# Altium integrated library Agilent Optoelectronic LED.IntLib: 357 symbols (part 2 of 6)
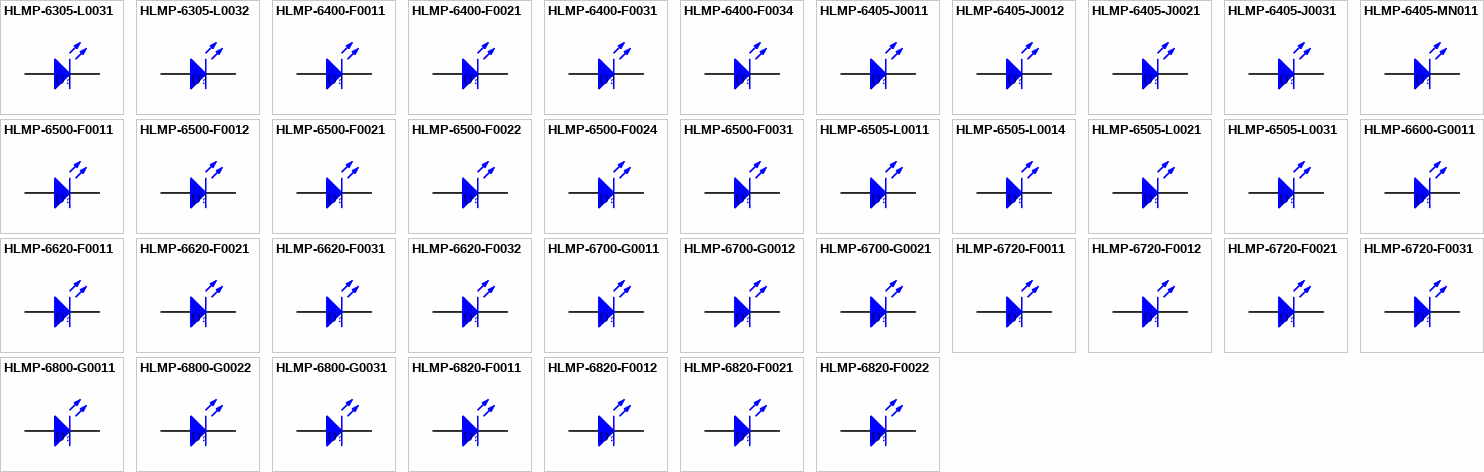
[diagram p9: symbols HLMP-6305-L0031 to HLMP-6820-F0022]

## HLMP-6700-G0011
designator D?
Subminiature Yellow LED Lamp; LuminousIntensity: 1.4mcd (Minimum).; PCB_Layout: Complies with manufacturer's recommendation.; Note: SIM model accounts for the Domed Subminiature Resistor. Extra resistance has been added to the parameter RS.; Published: 11-Dec-2002; LatestRevisionDate: 19-Mar-2004; LatestRevisionNote: Silkscreen size reduced.; DatasheetDocument: 30-Apr-2002; PackageDocument: 19-Apr-2001; PackageReference: 2.2X2.1X2.9; Publisher: Altium Limited; LED_Colour: Yellow; ComponentLink1Description: Manufacturer Link; ComponentLink1URL: http://www.agilent.com/; ComponentLink2Description: Datasheet; ComponentLink2URL: http://cp.literature.agilent.com/litweb/pdf/5988-6260EN.pdf
footprint 2.2X2.1X2.9 (SM LED; 2 Gull Wing Leads; Body 2.2 x 2.1 mm, (LxW))
simulation model Agl_HLMP6700 (Diode)
signal-integrity model LED
pins: 1 A, 2 K

## HLMP-6700-G0012
designator D?
Subminiature Yellow LED Lamp; LuminousIntensity: 1.4mcd (Minimum).; PCB_Layout: Complies with manufacturer's recommendation.; Note: SIM model accounts for the Domed Subminiature Resistor. Extra resistance has been added to the parameter RS.; Published: 11-Dec-2002; LatestRevisionDate: 19-Mar-2004; LatestRevisionNote: Silkscreen size reduced.; DatasheetDocument: 30-Apr-2002; PackageDocument: 19-Apr-2001; PackageReference: 2.2X2.1X2.9; Publisher: Altium Limited; LED_Colour: Yellow; ComponentLink1Description: Manufacturer Link; ComponentLink1URL: http://www.agilent.com/; ComponentLink2Description: Datasheet; ComponentLink2URL: http://cp.literature.agilent.com/litweb/pdf/5988-6260EN.pdf
footprint 2.2X2.1X2.9 (SM LED; 2 Gull Wing Leads; Body 2.2 x 2.1 mm, (LxW))
simulation model Agl_HLMP6700 (Diode)
signal-integrity model LED
pins: 1 A, 2 K

## HLMP-6700-G0021
designator D?
Subminiature Yellow LED Lamp; LuminousIntensity: 1.4mcd (Minimum).; PCB_Layout: Complies with manufacturer's recommendation.; DrillSize: Nominal, Rounded to nearest 0.05mm; Note: SIM model accounts for the Domed Subminiature Resistor. Extra resistance has been added to the parameter RS.; Published: 11-Dec-2002; DatasheetDocument: 30-Apr-2002; PackageDocument: 19-Apr-2001; PackageReference: 2.2X2.1X2.9Y; Publisher: Altium Limited; LED_Colour: Yellow; ComponentLink1Description: Manufacturer Link; ComponentLink1URL: http://www.agilent.com/; ComponentLink2Description: Datasheet; ComponentLink2URL: http://cp.literature.agilent.com/litweb/pdf/5988-6260EN.pdf
footprint 2.2X2.1X2.9Y (SM LED; 2 Yoke Leads)
simulation model Agl_HLMP6700 (Diode)
signal-integrity model LED
pins: 1 A, 2 K

## HLMP-6720-F0011
designator D?
Subminiature Yellow LED Lamp; LuminousIntensity: 0.9mcd (Minimum).; PCB_Layout: Complies with manufacturer's recommendation.; Note: SIM model accounts for the Domed Subminiature Resistor. Extra resistance has been added to the parameter RS.; Published: 11-Dec-2002; LatestRevisionDate: 19-Mar-2004; LatestRevisionNote: Silkscreen size reduced.; DatasheetDocument: 30-Apr-2002; PackageDocument: 19-Apr-2001; PackageReference: 2.2X2.1X2.9; Publisher: Altium Limited; LED_Colour: Yellow; ComponentLink1Description: Manufacturer Link; ComponentLink1URL: http://www.agilent.com/; ComponentLink2Description: Datasheet; ComponentLink2URL: http://cp.literature.agilent.com/litweb/pdf/5988-6260EN.pdf
footprint 2.2X2.1X2.9 (SM LED; 2 Gull Wing Leads; Body 2.2 x 2.1 mm, (LxW))
simulation model Agl_HLMP6720 (Diode)
signal-integrity model LED
pins: 1 A, 2 K

## HLMP-6720-F0012
designator D?
Subminiature Yellow LED Lamp; LuminousIntensity: 0.9mcd (Minimum).; PCB_Layout: Complies with manufacturer's recommendation.; Note: SIM model accounts for the Domed Subminiature Resistor. Extra resistance has been added to the parameter RS.; Published: 11-Dec-2002; LatestRevisionDate: 19-Mar-2004; LatestRevisionNote: Silkscreen size reduced.; DatasheetDocument: 30-Apr-2002; PackageDocument: 19-Apr-2001; PackageReference: 2.2X2.1X2.9; Publisher: Altium Limited; LED_Colour: Yellow; ComponentLink1Description: Manufacturer Link; ComponentLink1URL: http://www.agilent.com/; ComponentLink2Description: Datasheet; ComponentLink2URL: http://cp.literature.agilent.com/litweb/pdf/5988-6260EN.pdf
footprint 2.2X2.1X2.9 (SM LED; 2 Gull Wing Leads; Body 2.2 x 2.1 mm, (LxW))
simulation model Agl_HLMP6720 (Diode)
signal-integrity model LED
pins: 1 A, 2 K

## HLMP-6720-F0021
designator D?
Subminiature Yellow LED Lamp; LuminousIntensity: 0.9mcd (Minimum).; PCB_Layout: Complies with manufacturer's recommendation.; DrillSize: Nominal, Rounded to nearest 0.05mm; Note: SIM model accounts for the Domed Subminiature Resistor. Extra resistance has been added to the parameter RS.; Published: 11-Dec-2002; DatasheetDocument: 30-Apr-2002; PackageDocument: 19-Apr-2001; PackageReference: 2.2X2.1X2.9Y; Publisher: Altium Limited; LED_Colour: Yellow; ComponentLink1Description: Manufacturer Link; ComponentLink1URL: http://www.agilent.com/; ComponentLink2Description: Datasheet; ComponentLink2URL: http://cp.literature.agilent.com/litweb/pdf/5988-6260EN.pdf
footprint 2.2X2.1X2.9Y (SM LED; 2 Yoke Leads)
simulation model Agl_HLMP6720 (Diode)
signal-integrity model LED
pins: 1 A, 2 K

## HLMP-6720-F0031
designator D?
Subminiature Yellow LED Lamp; LuminousIntensity: 0.9mcd (Minimum).; PCB_Layout: Complies with manufacturer's recommendation.; DrillSize: Nominal, Rounded to nearest 0.05mm; Note: SIM model accounts for the Domed Subminiature Resistor. Extra resistance has been added to the parameter RS.; Published: 11-Dec-2002; DatasheetDocument: 30-Apr-2002; PackageDocument: 19-Apr-2001; PackageReference: 2.2X2.1X2.9Z; Publisher: Altium Limited; LED_Colour: Yellow; ComponentLink1Description: Manufacturer Link; ComponentLink1URL: http://www.agilent.com/; ComponentLink2Description: Datasheet; ComponentLink2URL: http://cp.literature.agilent.com/litweb/pdf/5988-6260EN.pdf
footprint 2.2X2.1X2.9Z (SM LED; 2 Z-Bend Leads)
simulation model Agl_HLMP6720 (Diode)
signal-integrity model LED
pins: 1 A, 2 K

## HLMP-6800-G0011
designator D?
Subminiature Green LED Lamp; LuminousIntensity: 1.6mcd (Minimum).; PCB_Layout: Complies with manufacturer's recommendation.; Note: SIM model accounts for the Domed Subminiature Resistor. Extra resistance has been added to the parameter RS.; Published: 11-Dec-2002; LatestRevisionDate: 19-Mar-2004; LatestRevisionNote: Silkscreen size reduced.; DatasheetDocument: 30-Apr-2002; PackageDocument: 19-Apr-2001; PackageReference: 2.2X2.1X2.9; Publisher: Altium Limited; LED_Colour: Green; ComponentLink1Description: Manufacturer Link; ComponentLink1URL: http://www.agilent.com/; ComponentLink2Description: Datasheet; ComponentLink2URL: http://cp.literature.agilent.com/litweb/pdf/5988-6260EN.pdf
footprint 2.2X2.1X2.9 (SM LED; 2 Gull Wing Leads; Body 2.2 x 2.1 mm, (LxW))
simulation model Agl_HLMP6800 (Diode)
signal-integrity model LED
pins: 1 A, 2 K

## HLMP-6800-G0022
designator D?
Subminiature Green LED Lamp; LuminousIntensity: 1.6mcd (Minimum).; PCB_Layout: Complies with manufacturer's recommendation.; DrillSize: Nominal, Rounded to nearest 0.05mm; Note: SIM model accounts for the Domed Subminiature Resistor. Extra resistance has been added to the parameter RS.; Published: 11-Dec-2002; DatasheetDocument: 30-Apr-2002; PackageDocument: 19-Apr-2001; PackageReference: 2.2X2.1X2.9Y; Publisher: Altium Limited; LED_Colour: Green; ComponentLink1Description: Manufacturer Link; ComponentLink1URL: http://www.agilent.com/; ComponentLink2Description: Datasheet; ComponentLink2URL: http://cp.literature.agilent.com/litweb/pdf/5988-6260EN.pdf
footprint 2.2X2.1X2.9Y (SM LED; 2 Yoke Leads)
simulation model Agl_HLMP6800 (Diode)
signal-integrity model LED
pins: 1 A, 2 K

## HLMP-6800-G0031
designator D?
Subminiature Green LED Lamp; LuminousIntensity: 1.6mcd (Minimum).; PCB_Layout: Complies with manufacturer's recommendation.; DrillSize: Nominal, Rounded to nearest 0.05mm; Note: SIM model accounts for the Domed Subminiature Resistor. Extra resistance has been added to the parameter RS.; Published: 11-Dec-2002; DatasheetDocument: 30-Apr-2002; PackageDocument: 19-Apr-2001; PackageReference: 2.2X2.1X2.9Z; Publisher: Altium Limited; LED_Colour: Green; ComponentLink1Description: Manufacturer Link; ComponentLink1URL: http://www.agilent.com/; ComponentLink2Description: Datasheet; ComponentLink2URL: http://cp.literature.agilent.com/litweb/pdf/5988-6260EN.pdf
footprint 2.2X2.1X2.9Z (SM LED; 2 Z-Bend Leads)
simulation model Agl_HLMP6800 (Diode)
signal-integrity model LED
pins: 1 A, 2 K

## HLMP-6820-F0011
designator D?
Subminiature Green LED Lamp; LuminousIntensity: 1mcd (Minimum).; PCB_Layout: Complies with manufacturer's recommendation.; Note: SIM model accounts for the Domed Subminiature Resistor. Extra resistance has been added to the parameter RS.; Published: 11-Dec-2002; LatestRevisionDate: 19-Mar-2004; LatestRevisionNote: Silkscreen size reduced.; DatasheetDocument: 30-Apr-2002; PackageDocument: 19-Apr-2001; PackageReference: 2.2X2.1X2.9; Publisher: Altium Limited; LED_Colour: Green; ComponentLink1Description: Manufacturer Link; ComponentLink1URL: http://www.agilent.com/; ComponentLink2Description: Datasheet; ComponentLink2URL: http://cp.literature.agilent.com/litweb/pdf/5988-6260EN.pdf
footprint 2.2X2.1X2.9 (SM LED; 2 Gull Wing Leads; Body 2.2 x 2.1 mm, (LxW))
simulation model Agl_HLMP6820 (Diode)
signal-integrity model LED
pins: 1 A, 2 K

## HLMP-6820-F0012
designator D?
Subminiature Green LED Lamp; LuminousIntensity: 1mcd (Minimum).; PCB_Layout: Complies with manufacturer's recommendation.; Note: SIM model accounts for the Domed Subminiature Resistor. Extra resistance has been added to the parameter RS.; Published: 11-Dec-2002; LatestRevisionDate: 19-Mar-2004; LatestRevisionNote: Silkscreen size reduced.; DatasheetDocument: 30-Apr-2002; PackageDocument: 19-Apr-2001; PackageReference: 2.2X2.1X2.9; Publisher: Altium Limited; LED_Colour: Green; ComponentLink1Description: Manufacturer Link; ComponentLink1URL: http://www.agilent.com/; ComponentLink2Description: Datasheet; ComponentLink2URL: http://cp.literature.agilent.com/litweb/pdf/5988-6260EN.pdf
footprint 2.2X2.1X2.9 (SM LED; 2 Gull Wing Leads; Body 2.2 x 2.1 mm, (LxW))
simulation model Agl_HLMP6820 (Diode)
signal-integrity model LED
pins: 1 A, 2 K

## HLMP-6820-F0021
designator D?
Subminiature Green LED Lamp; LuminousIntensity: 1mcd (Minimum).; PCB_Layout: Complies with manufacturer's recommendation.; DrillSize: Nominal, Rounded to nearest 0.05mm; Note: SIM model accounts for the Domed Subminiature Resistor. Extra resistance has been added to the parameter RS.; Published: 11-Dec-2002; DatasheetDocument: 30-Apr-2002; PackageDocument: 19-Apr-2001; PackageReference: 2.2X2.1X2.9Y; Publisher: Altium Limited; LED_Colour: Green; ComponentLink1Description: Manufacturer Link; ComponentLink1URL: http://www.agilent.com/; ComponentLink2Description: Datasheet; ComponentLink2URL: http://cp.literature.agilent.com/litweb/pdf/5988-6260EN.pdf
footprint 2.2X2.1X2.9Y (SM LED; 2 Yoke Leads)
simulation model Agl_HLMP6820 (Diode)
signal-integrity model LED
pins: 1 A, 2 K

## HLMP-6820-F0022
designator D?
Subminiature Green LED Lamp; LuminousIntensity: 1mcd (Minimum).; PCB_Layout: Complies with manufacturer's recommendation.; DrillSize: Nominal, Rounded to nearest 0.05mm; Note: SIM model accounts for the Domed Subminiature Resistor. Extra resistance has been added to the parameter RS.; Published: 11-Dec-2002; DatasheetDocument: 30-Apr-2002; PackageDocument: 19-Apr-2001; PackageReference: 2.2X2.1X2.9Y; Publisher: Altium Limited; LED_Colour: Green; ComponentLink1Description: Manufacturer Link; ComponentLink1URL: http://www.agilent.com/; ComponentLink2Description: Datasheet; ComponentLink2URL: http://cp.literature.agilent.com/litweb/pdf/5988-6260EN.pdf
footprint 2.2X2.1X2.9Y (SM LED; 2 Yoke Leads)
simulation model Agl_HLMP6820 (Diode)
signal-integrity model LED
pins: 1 A, 2 K

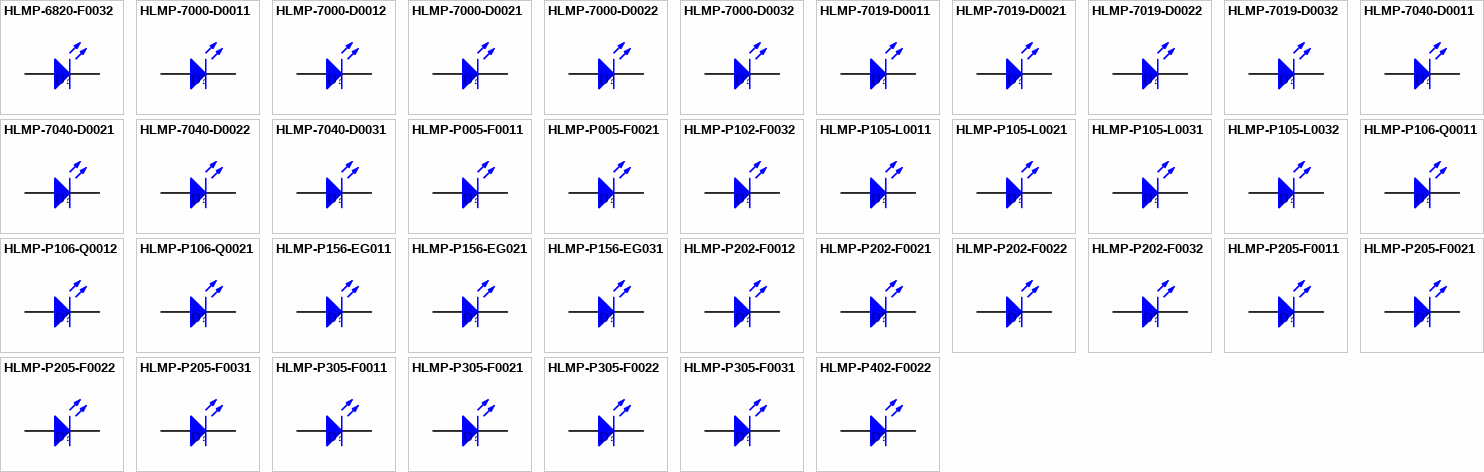
[diagram p2: symbols HLMP-6820-F0032 to HLMP-P402-F0022]

## HLMP-6820-F0032
designator D?
Subminiature Green LED Lamp; LuminousIntensity: 1mcd (Minimum).; PCB_Layout: Complies with manufacturer's recommendation.; DrillSize: Nominal, Rounded to nearest 0.05mm; Note: SIM model accounts for the Domed Subminiature Resistor. Extra resistance has been added to the parameter RS.; Published: 11-Dec-2002; DatasheetDocument: 30-Apr-2002; PackageDocument: 19-Apr-2001; PackageReference: 2.2X2.1X2.9Z; Publisher: Altium Limited; LED_Colour: Green; ComponentLink1Description: Manufacturer Link; ComponentLink1URL: http://www.agilent.com/; ComponentLink2Description: Datasheet; ComponentLink2URL: http://cp.literature.agilent.com/litweb/pdf/5988-6260EN.pdf
footprint 2.2X2.1X2.9Z (SM LED; 2 Z-Bend Leads)
simulation model Agl_HLMP6820 (Diode)
signal-integrity model LED
pins: 1 A, 2 K

## HLMP-7000-D0011
designator D?
Subminiature Red LED Lamp; LuminousIntensity: 0.4mcd (Minimum).; PCB_Layout: Complies with manufacturer's recommendation.; Published: 11-Dec-2002; LatestRevisionDate: 19-Mar-2004; LatestRevisionNote: Silkscreen size reduced.; DatasheetDocument: 30-Apr-2002; PackageDocument: 19-Apr-2001; PackageReference: 2.2X2.1X2.9; Publisher: Altium Limited; LED_Colour: Red; ComponentLink1Description: Manufacturer Link; ComponentLink1URL: http://www.agilent.com/; ComponentLink2Description: Datasheet; ComponentLink2URL: http://cp.literature.agilent.com/litweb/pdf/5988-6260EN.pdf
footprint 2.2X2.1X2.9 (SM LED; 2 Gull Wing Leads; Body 2.2 x 2.1 mm, (LxW))
simulation model Agl_HLMP7000 (Diode)
signal-integrity model LED
pins: 1 A, 2 K

## HLMP-7000-D0012
designator D?
Subminiature Red LED Lamp; LuminousIntensity: 0.4mcd (Minimum).; PCB_Layout: Complies with manufacturer's recommendation.; Published: 11-Dec-2002; LatestRevisionDate: 19-Mar-2004; LatestRevisionNote: Silkscreen size reduced.; DatasheetDocument: 30-Apr-2002; PackageDocument: 19-Apr-2001; PackageReference: 2.2X2.1X2.9; Publisher: Altium Limited; LED_Colour: Red; ComponentLink1Description: Manufacturer Link; ComponentLink1URL: http://www.agilent.com/; ComponentLink2Description: Datasheet; ComponentLink2URL: http://cp.literature.agilent.com/litweb/pdf/5988-6260EN.pdf
footprint 2.2X2.1X2.9 (SM LED; 2 Gull Wing Leads; Body 2.2 x 2.1 mm, (LxW))
simulation model Agl_HLMP7000 (Diode)
signal-integrity model LED
pins: 1 A, 2 K

## HLMP-7000-D0021
designator D?
Subminiature Red LED Lamp; LuminousIntensity: 0.4mcd (Minimum).; PCB_Layout: Complies with manufacturer's recommendation.; DrillSize: Nominal, Rounded to nearest 0.05mm; Published: 11-Dec-2002; DatasheetDocument: 30-Apr-2002; PackageDocument: 19-Apr-2001; PackageReference: 2.2X2.1X2.9Y; Publisher: Altium Limited; LED_Colour: Red; ComponentLink1Description: Manufacturer Link; ComponentLink1URL: http://www.agilent.com/; ComponentLink2Description: Datasheet; ComponentLink2URL: http://cp.literature.agilent.com/litweb/pdf/5988-6260EN.pdf
footprint 2.2X2.1X2.9Y (SM LED; 2 Yoke Leads)
simulation model Agl_HLMP7000 (Diode)
signal-integrity model LED
pins: 1 A, 2 K

## HLMP-7000-D0022
designator D?
Subminiature Red LED Lamp; LuminousIntensity: 0.4mcd (Minimum).; PCB_Layout: Complies with manufacturer's recommendation.; DrillSize: Nominal, Rounded to nearest 0.05mm; Published: 11-Dec-2002; DatasheetDocument: 30-Apr-2002; PackageDocument: 19-Apr-2001; PackageReference: 2.2X2.1X2.9Y; Publisher: Altium Limited; LED_Colour: Red; ComponentLink1Description: Manufacturer Link; ComponentLink1URL: http://www.agilent.com/; ComponentLink2Description: Datasheet; ComponentLink2URL: http://cp.literature.agilent.com/litweb/pdf/5988-6260EN.pdf
footprint 2.2X2.1X2.9Y (SM LED; 2 Yoke Leads)
simulation model Agl_HLMP7000 (Diode)
signal-integrity model LED
pins: 1 A, 2 K

## HLMP-7000-D0032
designator D?
Subminiature Red LED Lamp; LuminousIntensity: 0.4mcd (Minimum).; PCB_Layout: Complies with manufacturer's recommendation.; DrillSize: Nominal, Rounded to nearest 0.05mm; Published: 11-Dec-2002; DatasheetDocument: 30-Apr-2002; PackageDocument: 19-Apr-2001; PackageReference: 2.2X2.1X2.9Z; Publisher: Altium Limited; LED_Colour: Red; ComponentLink1Description: Manufacturer Link; ComponentLink1URL: http://www.agilent.com/; ComponentLink2Description: Datasheet; ComponentLink2URL: http://cp.literature.agilent.com/litweb/pdf/5988-6260EN.pdf
footprint 2.2X2.1X2.9Z (SM LED; 2 Z-Bend Leads)
simulation model Agl_HLMP7000 (Diode)
signal-integrity model LED
pins: 1 A, 2 K

## HLMP-7019-D0011
designator D?
Subminiature Yellow LED Lamp; LuminousIntensity: 0.4mcd (Minimum).; PCB_Layout: Complies with manufacturer's recommendation.; Published: 11-Dec-2002; LatestRevisionDate: 19-Mar-2004; LatestRevisionNote: Silkscreen size reduced.; DatasheetDocument: 30-Apr-2002; PackageDocument: 19-Apr-2001; PackageReference: 2.2X2.1X2.9; Publisher: Altium Limited; LED_Colour: Yellow; ComponentLink1Description: Manufacturer Link; ComponentLink1URL: http://www.agilent.com/; ComponentLink2Description: Datasheet; ComponentLink2URL: http://cp.literature.agilent.com/litweb/pdf/5988-6260EN.pdf
footprint 2.2X2.1X2.9 (SM LED; 2 Gull Wing Leads; Body 2.2 x 2.1 mm, (LxW))
simulation model Agl_HLMP7019 (Diode)
signal-integrity model LED
pins: 1 A, 2 K

## HLMP-7019-D0021
designator D?
Subminiature Yellow LED Lamp; LuminousIntensity: 0.4mcd (Minimum).; PCB_Layout: Complies with manufacturer's recommendation.; DrillSize: Nominal, Rounded to nearest 0.05mm; Published: 11-Dec-2002; DatasheetDocument: 30-Apr-2002; PackageDocument: 19-Apr-2001; PackageReference: 2.2X2.1X2.9Y; Publisher: Altium Limited; LED_Colour: Yellow; ComponentLink1Description: Manufacturer Link; ComponentLink1URL: http://www.agilent.com/; ComponentLink2Description: Datasheet; ComponentLink2URL: http://cp.literature.agilent.com/litweb/pdf/5988-6260EN.pdf
footprint 2.2X2.1X2.9Y (SM LED; 2 Yoke Leads)
simulation model Agl_HLMP7019 (Diode)
signal-integrity model LED
pins: 1 A, 2 K

## HLMP-7019-D0022
designator D?
Subminiature Yellow LED Lamp; LuminousIntensity: 0.4mcd (Minimum).; PCB_Layout: Complies with manufacturer's recommendation.; DrillSize: Nominal, Rounded to nearest 0.05mm; Published: 11-Dec-2002; DatasheetDocument: 30-Apr-2002; PackageDocument: 19-Apr-2001; PackageReference: 2.2X2.1X2.9Y; Publisher: Altium Limited; LED_Colour: Yellow; ComponentLink1Description: Manufacturer Link; ComponentLink1URL: http://www.agilent.com/; ComponentLink2Description: Datasheet; ComponentLink2URL: http://cp.literature.agilent.com/litweb/pdf/5988-6260EN.pdf
footprint 2.2X2.1X2.9Y (SM LED; 2 Yoke Leads)
simulation model Agl_HLMP7019 (Diode)
signal-integrity model LED
pins: 1 A, 2 K

## HLMP-7019-D0032
designator D?
Subminiature Yellow LED Lamp; LuminousIntensity: 0.4mcd (Minimum).; PCB_Layout: Complies with manufacturer's recommendation.; DrillSize: Nominal, Rounded to nearest 0.05mm; Published: 11-Dec-2002; DatasheetDocument: 30-Apr-2002; PackageDocument: 19-Apr-2001; PackageReference: 2.2X2.1X2.9Z; Publisher: Altium Limited; LED_Colour: Yellow; ComponentLink1Description: Manufacturer Link; ComponentLink1URL: http://www.agilent.com/; ComponentLink2Description: Datasheet; ComponentLink2URL: http://cp.literature.agilent.com/litweb/pdf/5988-6260EN.pdf
footprint 2.2X2.1X2.9Z (SM LED; 2 Z-Bend Leads)
simulation model Agl_HLMP7019 (Diode)
signal-integrity model LED
pins: 1 A, 2 K

## HLMP-7040-D0011
designator D?
Subminiature Green LED Lamp; LuminousIntensity: 0.4mcd (Minimum).; PCB_Layout: Complies with manufacturer's recommendation.; Published: 11-Dec-2002; LatestRevisionDate: 19-Mar-2004; LatestRevisionNote: Silkscreen size reduced.; DatasheetDocument: 30-Apr-2002; PackageDocument: 19-Apr-2001; PackageReference: 2.2X2.1X2.9; Publisher: Altium Limited; LED_Colour: Green; ComponentLink1Description: Manufacturer Link; ComponentLink1URL: http://www.agilent.com/; ComponentLink2Description: Datasheet; ComponentLink2URL: http://cp.literature.agilent.com/litweb/pdf/5988-6260EN.pdf
footprint 2.2X2.1X2.9 (SM LED; 2 Gull Wing Leads; Body 2.2 x 2.1 mm, (LxW))
simulation model Agl_HLMP7040 (Diode)
signal-integrity model LED
pins: 1 A, 2 K

## HLMP-7040-D0021
designator D?
Subminiature Green LED Lamp; LuminousIntensity: 0.4mcd (Minimum).; PCB_Layout: Complies with manufacturer's recommendation.; DrillSize: Nominal, Rounded to nearest 0.05mm; Published: 11-Dec-2002; DatasheetDocument: 30-Apr-2002; PackageDocument: 19-Apr-2001; PackageReference: 2.2X2.1X2.9Y; Publisher: Altium Limited; LED_Colour: Green; ComponentLink1Description: Manufacturer Link; ComponentLink1URL: http://www.agilent.com/; ComponentLink2Description: Datasheet; ComponentLink2URL: http://cp.literature.agilent.com/litweb/pdf/5988-6260EN.pdf
footprint 2.2X2.1X2.9Y (SM LED; 2 Yoke Leads)
simulation model Agl_HLMP7040 (Diode)
signal-integrity model LED
pins: 1 A, 2 K

## HLMP-7040-D0022
designator D?
Subminiature Green LED Lamp; LuminousIntensity: 0.4mcd (Minimum).; PCB_Layout: Complies with manufacturer's recommendation.; DrillSize: Nominal, Rounded to nearest 0.05mm; Published: 11-Dec-2002; DatasheetDocument: 30-Apr-2002; PackageDocument: 19-Apr-2001; PackageReference: 2.2X2.1X2.9Y; Publisher: Altium Limited; LED_Colour: Green; ComponentLink1Description: Manufacturer Link; ComponentLink1URL: http://www.agilent.com/; ComponentLink2Description: Datasheet; ComponentLink2URL: http://cp.literature.agilent.com/litweb/pdf/5988-6260EN.pdf
footprint 2.2X2.1X2.9Y (SM LED; 2 Yoke Leads)
simulation model Agl_HLMP7040 (Diode)
signal-integrity model LED
pins: 1 A, 2 K

## HLMP-7040-D0031
designator D?
Subminiature Green LED Lamp; LuminousIntensity: 0.4mcd (Minimum).; PCB_Layout: Complies with manufacturer's recommendation.; DrillSize: Nominal, Rounded to nearest 0.05mm; Published: 11-Dec-2002; DatasheetDocument: 30-Apr-2002; PackageDocument: 19-Apr-2001; PackageReference: 2.2X2.1X2.9Z; Publisher: Altium Limited; LED_Colour: Green; ComponentLink1Description: Manufacturer Link; ComponentLink1URL: http://www.agilent.com/; ComponentLink2Description: Datasheet; ComponentLink2URL: http://cp.literature.agilent.com/litweb/pdf/5988-6260EN.pdf
footprint 2.2X2.1X2.9Z (SM LED; 2 Z-Bend Leads)
simulation model Agl_HLMP7040 (Diode)
signal-integrity model LED
pins: 1 A, 2 K

## HLMP-P005-F0011
designator D?
Subminiature Red LED Lamp; LuminousIntensity: 1mcd (Minimum).; PCB_Layout: Complies with manufacturer's recommendation.; Published: 11-Dec-2002; LatestRevisionDate: 19-Mar-2004; LatestRevisionNote: Silkscreen size reduced.; DatasheetDocument: 30-Apr-2002; PackageDocument: 19-Apr-2001; PackageReference: 2.2X2.1X2.2; Publisher: Altium Limited; LED_Colour: Red; ComponentLink1Description: Manufacturer Link; ComponentLink1URL: http://www.agilent.com/; ComponentLink2Description: Datasheet; ComponentLink2URL: http://cp.literature.agilent.com/litweb/pdf/5988-6260EN.pdf
footprint 2.2X2.1X2.2 (SM LED; 2 Gull Wing Leads; Body 2.2 x 2.1 mm, (LxW))
simulation model Agl_HLMP6000 (Diode)
signal-integrity model LED
pins: 1 A, 2 K

## HLMP-P005-F0021
designator D?
Subminiature Red LED Lamp; LuminousIntensity: 1mcd (Minimum).; PCB_Layout: Complies with manufacturer's recommendation.; DrillSize: Nominal, Rounded to nearest 0.05mm; Published: 11-Dec-2002; DatasheetDocument: 30-Apr-2002; PackageDocument: 19-Apr-2001; PackageReference: 2.2X2.1X2.2Y; Publisher: Altium Limited; LED_Colour: Red; ComponentLink1Description: Manufacturer Link; ComponentLink1URL: http://www.agilent.com/; ComponentLink2Description: Datasheet; ComponentLink2URL: http://cp.literature.agilent.com/litweb/pdf/5988-6260EN.pdf
footprint 2.2X2.1X2.2Y (SM LED; 2 Yoke Leads)
simulation model Agl_HLMP6000 (Diode)
signal-integrity model LED
pins: 1 A, 2 K

## HLMP-P102-F0032
designator D?
Subminiature High Performance TS AlGaAs Red LED Lamp; LuminousIntensity: 1mcd (Minimum).; PCB_Layout: Complies with manufacturer's recommendation.; DrillSize: Nominal, Rounded to nearest 0.05mm; Published: 11-Dec-2002; DatasheetDocument: 30-Apr-2002; PackageDocument: 19-Apr-2001; PackageReference: 2.2X2.1X2.2Z; Publisher: Altium Limited; LED_Colour: Red; ComponentLink1Description: Manufacturer Link; ComponentLink1URL: http://www.agilent.com/; ComponentLink2Description: Datasheet; ComponentLink2URL: http://cp.literature.agilent.com/litweb/pdf/5988-6260EN.pdf
footprint 2.2X2.1X2.2Z (SM LED; 2 Z-Bend Leads)
simulation model Agl_HLMPQ100 (Diode)
signal-integrity model LED
pins: 1 A, 2 K

## HLMP-P105-L0011
designator D?
Subminiature Red LED Lamp; LuminousIntensity: 10mcd (Minimum).; PCB_Layout: Complies with manufacturer's recommendation.; Published: 11-Dec-2002; LatestRevisionDate: 19-Mar-2004; LatestRevisionNote: Silkscreen size reduced.; DatasheetDocument: 30-Apr-2002; PackageDocument: 19-Apr-2001; PackageReference: 2.2X2.1X2.2; Publisher: Altium Limited; LED_Colour: Red; ComponentLink1Description: Manufacturer Link; ComponentLink1URL: http://www.agilent.com/; ComponentLink2Description: Datasheet; ComponentLink2URL: http://cp.literature.agilent.com/litweb/pdf/5988-6260EN.pdf
footprint 2.2X2.1X2.2 (SM LED; 2 Gull Wing Leads; Body 2.2 x 2.1 mm, (LxW))
simulation model Agl_HLMPQ100 (Diode)
signal-integrity model LED
pins: 1 A, 2 K

## HLMP-P105-L0021
designator D?
Subminiature Red LED Lamp; LuminousIntensity: 10mcd (Minimum).; PCB_Layout: Complies with manufacturer's recommendation.; DrillSize: Nominal, Rounded to nearest 0.05mm; Published: 11-Dec-2002; DatasheetDocument: 30-Apr-2002; PackageDocument: 19-Apr-2001; PackageReference: 2.2X2.1X2.2Y; Publisher: Altium Limited; LED_Colour: Red; ComponentLink1Description: Manufacturer Link; ComponentLink1URL: http://www.agilent.com/; ComponentLink2Description: Datasheet; ComponentLink2URL: http://cp.literature.agilent.com/litweb/pdf/5988-6260EN.pdf
footprint 2.2X2.1X2.2Y (SM LED; 2 Yoke Leads)
simulation model Agl_HLMPQ100 (Diode)
signal-integrity model LED
pins: 1 A, 2 K

## HLMP-P105-L0031
designator D?
Subminiature Red LED Lamp; LuminousIntensity: 10mcd (Minimum).; PCB_Layout: Complies with manufacturer's recommendation.; DrillSize: Nominal, Rounded to nearest 0.05mm; Published: 11-Dec-2002; DatasheetDocument: 30-Apr-2002; PackageDocument: 19-Apr-2001; PackageReference: 2.2X2.1X2.2Z; Publisher: Altium Limited; LED_Colour: Red; ComponentLink1Description: Manufacturer Link; ComponentLink1URL: http://www.agilent.com/; ComponentLink2Description: Datasheet; ComponentLink2URL: http://cp.literature.agilent.com/litweb/pdf/5988-6260EN.pdf
footprint 2.2X2.1X2.2Z (SM LED; 2 Z-Bend Leads)
simulation model Agl_HLMPQ100 (Diode)
signal-integrity model LED
pins: 1 A, 2 K

## HLMP-P105-L0032
designator D?
Subminiature Red LED Lamp; LuminousIntensity: 10mcd (Minimum).; PCB_Layout: Complies with manufacturer's recommendation.; DrillSize: Nominal, Rounded to nearest 0.05mm; Published: 11-Dec-2002; DatasheetDocument: 30-Apr-2002; PackageDocument: 19-Apr-2001; PackageReference: 2.2X2.1X2.2Z; Publisher: Altium Limited; LED_Colour: Red; ComponentLink1Description: Manufacturer Link; ComponentLink1URL: http://www.agilent.com/; ComponentLink2Description: Datasheet; ComponentLink2URL: http://cp.literature.agilent.com/litweb/pdf/5988-6260EN.pdf
footprint 2.2X2.1X2.2Z (SM LED; 2 Z-Bend Leads)
simulation model Agl_HLMPQ100 (Diode)
signal-integrity model LED
pins: 1 A, 2 K

## HLMP-P106-Q0011
designator D?
Subminiature High Performance TS AlGaAs Red LED Lamp; LuminousIntensity: 63mcd (Minimum).; PCB_Layout: Complies with manufacturer's recommendation.; Published: 11-Dec-2002; LatestRevisionDate: 19-Mar-2004; LatestRevisionNote: Silkscreen size reduced.; DatasheetDocument: 30-Apr-2002; PackageDocument: 19-Apr-2001; PackageReference: 2.2X2.1X2.2; Publisher: Altium Limited; LED_Colour: Red; ComponentLink1Description: Manufacturer Link; ComponentLink1URL: http://www.agilent.com/; ComponentLink2Description: Datasheet; ComponentLink2URL: http://cp.literature.agilent.com/litweb/pdf/5988-6260EN.pdf
footprint 2.2X2.1X2.2 (SM LED; 2 Gull Wing Leads; Body 2.2 x 2.1 mm, (LxW))
simulation model Agl_HLMPQ102 (Diode)
signal-integrity model LED
pins: 1 A, 2 K

## HLMP-P106-Q0012
designator D?
Subminiature High Performance TS AlGaAs Red LED Lamp; LuminousIntensity: 63mcd (Minimum).; PCB_Layout: Complies with manufacturer's recommendation.; Published: 11-Dec-2002; LatestRevisionDate: 19-Mar-2004; LatestRevisionNote: Silkscreen size reduced.; DatasheetDocument: 30-Apr-2002; PackageDocument: 19-Apr-2001; PackageReference: 2.2X2.1X2.2; Publisher: Altium Limited; LED_Colour: Red; ComponentLink1Description: Manufacturer Link; ComponentLink1URL: http://www.agilent.com/; ComponentLink2Description: Datasheet; ComponentLink2URL: http://cp.literature.agilent.com/litweb/pdf/5988-6260EN.pdf
footprint 2.2X2.1X2.2 (SM LED; 2 Gull Wing Leads; Body 2.2 x 2.1 mm, (LxW))
simulation model Agl_HLMPQ102 (Diode)
signal-integrity model LED
pins: 1 A, 2 K

## HLMP-P106-Q0021
designator D?
Subminiature High Performance TS AlGaAs Red LED Lamp; LuminousIntensity: 63mcd (Minimum).; PCB_Layout: Complies with manufacturer's recommendation.; DrillSize: Nominal, Rounded to nearest 0.05mm; Published: 11-Dec-2002; DatasheetDocument: 30-Apr-2002; PackageDocument: 19-Apr-2001; PackageReference: 2.2X2.1X2.2Y; Publisher: Altium Limited; LED_Colour: Red; ComponentLink1Description: Manufacturer Link; ComponentLink1URL: http://www.agilent.com/; ComponentLink2Description: Datasheet; ComponentLink2URL: http://cp.literature.agilent.com/litweb/pdf/5988-6260EN.pdf
footprint 2.2X2.1X2.2Y (SM LED; 2 Yoke Leads)
simulation model Agl_HLMPQ102 (Diode)
signal-integrity model LED
pins: 1 A, 2 K

## HLMP-P156-EG011
designator D?
Subminiature High Performance TS AlGaAs Red LED Lamp; LuminousIntensity: 0.63mcd (Minimum).; PCB_Layout: Complies with manufacturer's recommendation.; Published: 11-Dec-2002; LatestRevisionDate: 19-Mar-2004; LatestRevisionNote: Silkscreen size reduced.; DatasheetDocument: 30-Apr-2002; PackageDocument: 19-Apr-2001; PackageReference: 2.2X2.1X2.2; Publisher: Altium Limited; LED_Colour: Red; ComponentLink1Description: Manufacturer Link; ComponentLink1URL: http://www.agilent.com/; ComponentLink2Description: Datasheet; ComponentLink2URL: http://cp.literature.agilent.com/litweb/pdf/5988-6260EN.pdf
footprint 2.2X2.1X2.2 (SM LED; 2 Gull Wing Leads; Body 2.2 x 2.1 mm, (LxW))
simulation model Agl_HLMPQ152 (Diode)
signal-integrity model LED
pins: 1 A, 2 K

## HLMP-P156-EG021
designator D?
Subminiature High Performance TS AlGaAs Red LED Lamp; LuminousIntensity: 0.63mcd (Minimum).; PCB_Layout: Complies with manufacturer's recommendation.; DrillSize: Nominal, Rounded to nearest 0.05mm; Published: 11-Dec-2002; DatasheetDocument: 30-Apr-2002; PackageDocument: 19-Apr-2001; PackageReference: 2.2X2.1X2.2Y; Publisher: Altium Limited; LED_Colour: Red; ComponentLink1Description: Manufacturer Link; ComponentLink1URL: http://www.agilent.com/; ComponentLink2Description: Datasheet; ComponentLink2URL: http://cp.literature.agilent.com/litweb/pdf/5988-6260EN.pdf
footprint 2.2X2.1X2.2Y (SM LED; 2 Yoke Leads)
simulation model Agl_HLMPQ152 (Diode)
signal-integrity model LED
pins: 1 A, 2 K

## HLMP-P156-EG031
designator D?
Subminiature High Performance TS AlGaAs Red LED Lamp; LuminousIntensity: 0.63mcd (Minimum).; PCB_Layout: Complies with manufacturer's recommendation.; DrillSize: Nominal, Rounded to nearest 0.05mm; Published: 11-Dec-2002; DatasheetDocument: 30-Apr-2002; PackageDocument: 19-Apr-2001; PackageReference: 2.2X2.1X2.2Z; Publisher: Altium Limited; LED_Colour: Red; ComponentLink1Description: Manufacturer Link; ComponentLink1URL: http://www.agilent.com/; ComponentLink2Description: Datasheet; ComponentLink2URL: http://cp.literature.agilent.com/litweb/pdf/5988-6260EN.pdf
footprint 2.2X2.1X2.2Z (SM LED; 2 Z-Bend Leads)
simulation model Agl_HLMPQ152 (Diode)
signal-integrity model LED
pins: 1 A, 2 K

## HLMP-P202-F0012
designator D?
Subminiature Red LED Lamp; LuminousIntensity: 1mcd (Minimum).; PCB_Layout: Complies with manufacturer's recommendation.; Published: 11-Dec-2002; LatestRevisionDate: 19-Mar-2004; LatestRevisionNote: Silkscreen size reduced.; DatasheetDocument: 30-Apr-2002; PackageDocument: 19-Apr-2001; PackageReference: 2.2X2.1X2.2; Publisher: Altium Limited; LED_Colour: Red; ComponentLink1Description: Manufacturer Link; ComponentLink1URL: http://www.agilent.com/; ComponentLink2Description: Datasheet; ComponentLink2URL: http://cp.literature.agilent.com/litweb/pdf/5988-6260EN.pdf
footprint 2.2X2.1X2.2 (SM LED; 2 Gull Wing Leads; Body 2.2 x 2.1 mm, (LxW))
simulation model Agl_HLMP7000 (Diode)
signal-integrity model LED
pins: 1 A, 2 K

## HLMP-P202-F0021
designator D?
Subminiature Red LED Lamp; LuminousIntensity: 1mcd (Minimum).; PCB_Layout: Complies with manufacturer's recommendation.; DrillSize: Nominal, Rounded to nearest 0.05mm; Published: 11-Dec-2002; DatasheetDocument: 30-Apr-2002; PackageDocument: 19-Apr-2001; PackageReference: 2.2X2.1X2.2Y; Publisher: Altium Limited; LED_Colour: Red; ComponentLink1Description: Manufacturer Link; ComponentLink1URL: http://www.agilent.com/; ComponentLink2Description: Datasheet; ComponentLink2URL: http://cp.literature.agilent.com/litweb/pdf/5988-6260EN.pdf
footprint 2.2X2.1X2.2Y (SM LED; 2 Yoke Leads)
simulation model Agl_HLMP7000 (Diode)
signal-integrity model LED
pins: 1 A, 2 K

## HLMP-P202-F0022
designator D?
Subminiature Red LED Lamp; LuminousIntensity: 1mcd (Minimum).; PCB_Layout: Complies with manufacturer's recommendation.; DrillSize: Nominal, Rounded to nearest 0.05mm; Published: 11-Dec-2002; DatasheetDocument: 30-Apr-2002; PackageDocument: 19-Apr-2001; PackageReference: 2.2X2.1X2.2Y; Publisher: Altium Limited; LED_Colour: Red; ComponentLink1Description: Manufacturer Link; ComponentLink1URL: http://www.agilent.com/; ComponentLink2Description: Datasheet; ComponentLink2URL: http://cp.literature.agilent.com/litweb/pdf/5988-6260EN.pdf
footprint 2.2X2.1X2.2Y (SM LED; 2 Yoke Leads)
simulation model Agl_HLMP7000 (Diode)
signal-integrity model LED
pins: 1 A, 2 K

## HLMP-P202-F0032
designator D?
Subminiature Red LED Lamp; LuminousIntensity: 1mcd (Minimum).; PCB_Layout: Complies with manufacturer's recommendation.; DrillSize: Nominal, Rounded to nearest 0.05mm; Published: 11-Dec-2002; DatasheetDocument: 30-Apr-2002; PackageDocument: 19-Apr-2001; PackageReference: 2.2X2.1X2.2Z; Publisher: Altium Limited; LED_Colour: Red; ComponentLink1Description: Manufacturer Link; ComponentLink1URL: http://www.agilent.com/; ComponentLink2Description: Datasheet; ComponentLink2URL: http://cp.literature.agilent.com/litweb/pdf/5988-6260EN.pdf
footprint 2.2X2.1X2.2Z (SM LED; 2 Z-Bend Leads)
simulation model Agl_HLMP7000 (Diode)
signal-integrity model LED
pins: 1 A, 2 K

## HLMP-P205-F0011
designator D?
Subminiature Red LED Lamp; LuminousIntensity: 1mcd (Minimum).; PCB_Layout: Complies with manufacturer's recommendation.; Published: 11-Dec-2002; LatestRevisionDate: 19-Mar-2004; LatestRevisionNote: Silkscreen size reduced.; DatasheetDocument: 30-Apr-2002; PackageDocument: 19-Apr-2001; PackageReference: 2.2X2.1X2.2; Publisher: Altium Limited; LED_Colour: Red; ComponentLink1Description: Manufacturer Link; ComponentLink1URL: http://www.agilent.com/; ComponentLink2Description: Datasheet; ComponentLink2URL: http://cp.literature.agilent.com/litweb/pdf/5988-6260EN.pdf
footprint 2.2X2.1X2.2 (SM LED; 2 Gull Wing Leads; Body 2.2 x 2.1 mm, (LxW))
simulation model Agl_HLMP7000 (Diode)
signal-integrity model LED
pins: 1 A, 2 K

## HLMP-P205-F0021
designator D?
Subminiature Red LED Lamp; LuminousIntensity: 1mcd (Minimum).; PCB_Layout: Complies with manufacturer's recommendation.; DrillSize: Nominal, Rounded to nearest 0.05mm; Published: 11-Dec-2002; DatasheetDocument: 30-Apr-2002; PackageDocument: 19-Apr-2001; PackageReference: 2.2X2.1X2.2Y; Publisher: Altium Limited; LED_Colour: Red; ComponentLink1Description: Manufacturer Link; ComponentLink1URL: http://www.agilent.com/; ComponentLink2Description: Datasheet; ComponentLink2URL: http://cp.literature.agilent.com/litweb/pdf/5988-6260EN.pdf
footprint 2.2X2.1X2.2Y (SM LED; 2 Yoke Leads)
simulation model Agl_HLMP7000 (Diode)
signal-integrity model LED
pins: 1 A, 2 K

## HLMP-P205-F0022
designator D?
Subminiature Red LED Lamp; LuminousIntensity: 1mcd (Minimum).; PCB_Layout: Complies with manufacturer's recommendation.; DrillSize: Nominal, Rounded to nearest 0.05mm; Published: 11-Dec-2002; DatasheetDocument: 30-Apr-2002; PackageDocument: 19-Apr-2001; PackageReference: 2.2X2.1X2.2Y; Publisher: Altium Limited; LED_Colour: Red; ComponentLink1Description: Manufacturer Link; ComponentLink1URL: http://www.agilent.com/; ComponentLink2Description: Datasheet; ComponentLink2URL: http://cp.literature.agilent.com/litweb/pdf/5988-6260EN.pdf
footprint 2.2X2.1X2.2Y (SM LED; 2 Yoke Leads)
simulation model Agl_HLMP7000 (Diode)
signal-integrity model LED
pins: 1 A, 2 K

## HLMP-P205-F0031
designator D?
Subminiature Red LED Lamp; LuminousIntensity: 1mcd (Minimum).; PCB_Layout: Complies with manufacturer's recommendation.; DrillSize: Nominal, Rounded to nearest 0.05mm; Published: 11-Dec-2002; DatasheetDocument: 30-Apr-2002; PackageDocument: 19-Apr-2001; PackageReference: 2.2X2.1X2.2Z; Publisher: Altium Limited; LED_Colour: Red; ComponentLink1Description: Manufacturer Link; ComponentLink1URL: http://www.agilent.com/; ComponentLink2Description: Datasheet; ComponentLink2URL: http://cp.literature.agilent.com/litweb/pdf/5988-6260EN.pdf
footprint 2.2X2.1X2.2Z (SM LED; 2 Z-Bend Leads)
simulation model Agl_HLMP7000 (Diode)
signal-integrity model LED
pins: 1 A, 2 K

## HLMP-P305-F0011
designator D?
Subminiature Yellow LED Lamp; LuminousIntensity: 1mcd (Minimum).; PCB_Layout: Complies with manufacturer's recommendation.; Published: 11-Dec-2002; LatestRevisionDate: 19-Mar-2004; LatestRevisionNote: Silkscreen size reduced.; DatasheetDocument: 30-Apr-2002; PackageDocument: 19-Apr-2001; PackageReference: 2.2X2.1X2.2; Publisher: Altium Limited; LED_Colour: Yellow; ComponentLink1Description: Manufacturer Link; ComponentLink1URL: http://www.agilent.com/; ComponentLink2Description: Datasheet; ComponentLink2URL: http://cp.literature.agilent.com/litweb/pdf/5988-6260EN.pdf
footprint 2.2X2.1X2.2 (SM LED; 2 Gull Wing Leads; Body 2.2 x 2.1 mm, (LxW))
simulation model Agl_HLMP7019 (Diode)
signal-integrity model LED
pins: 1 A, 2 K

## HLMP-P305-F0021
designator D?
Subminiature Yellow LED Lamp; LuminousIntensity: 1mcd (Minimum).; PCB_Layout: Complies with manufacturer's recommendation.; DrillSize: Nominal, Rounded to nearest 0.05mm; Published: 11-Dec-2002; DatasheetDocument: 30-Apr-2002; PackageDocument: 19-Apr-2001; PackageReference: 2.2X2.1X2.2Y; Publisher: Altium Limited; LED_Colour: Yellow; ComponentLink1Description: Manufacturer Link; ComponentLink1URL: http://www.agilent.com/; ComponentLink2Description: Datasheet; ComponentLink2URL: http://cp.literature.agilent.com/litweb/pdf/5988-6260EN.pdf
footprint 2.2X2.1X2.2Y (SM LED; 2 Yoke Leads)
simulation model Agl_HLMP7019 (Diode)
signal-integrity model LED
pins: 1 A, 2 K

## HLMP-P305-F0022
designator D?
Subminiature Yellow LED Lamp; LuminousIntensity: 1mcd (Minimum).; PCB_Layout: Complies with manufacturer's recommendation.; DrillSize: Nominal, Rounded to nearest 0.05mm; Published: 11-Dec-2002; DatasheetDocument: 30-Apr-2002; PackageDocument: 19-Apr-2001; PackageReference: 2.2X2.1X2.2Y; Publisher: Altium Limited; LED_Colour: Yellow; ComponentLink1Description: Manufacturer Link; ComponentLink1URL: http://www.agilent.com/; ComponentLink2Description: Datasheet; ComponentLink2URL: http://cp.literature.agilent.com/litweb/pdf/5988-6260EN.pdf
footprint 2.2X2.1X2.2Y (SM LED; 2 Yoke Leads)
simulation model Agl_HLMP7019 (Diode)
signal-integrity model LED
pins: 1 A, 2 K

## HLMP-P305-F0031
designator D?
Subminiature Yellow LED Lamp; LuminousIntensity: 1mcd (Minimum).; PCB_Layout: Complies with manufacturer's recommendation.; DrillSize: Nominal, Rounded to nearest 0.05mm; Published: 11-Dec-2002; DatasheetDocument: 30-Apr-2002; PackageDocument: 19-Apr-2001; PackageReference: 2.2X2.1X2.2Z; Publisher: Altium Limited; LED_Colour: Yellow; ComponentLink1Description: Manufacturer Link; ComponentLink1URL: http://www.agilent.com/; ComponentLink2Description: Datasheet; ComponentLink2URL: http://cp.literature.agilent.com/litweb/pdf/5988-6260EN.pdf
footprint 2.2X2.1X2.2Z (SM LED; 2 Z-Bend Leads)
simulation model Agl_HLMP7019 (Diode)
signal-integrity model LED
pins: 1 A, 2 K

## HLMP-P402-F0022
designator D?
Subminiature Orange LED Lamp; LuminousIntensity: 1mcd (Minimum).; PCB_Layout: Complies with manufacturer's recommendation.; DrillSize: Nominal, Rounded to nearest 0.05mm; Published: 11-Dec-2002; DatasheetDocument: 30-Apr-2002; PackageDocument: 19-Apr-2001; PackageReference: 2.2X2.1X2.2Y; Publisher: Altium Limited; LED_Colour: Orange; ComponentLink1Description: Manufacturer Link; ComponentLink1URL: http://www.agilent.com/; ComponentLink2Description: Datasheet; ComponentLink2URL: http://cp.literature.agilent.com/litweb/pdf/5988-6260EN.pdf
footprint 2.2X2.1X2.2Y (SM LED; 2 Yoke Leads)
simulation model Agl_HLMPQ400 (Diode)
signal-integrity model LED
pins: 1 A, 2 K

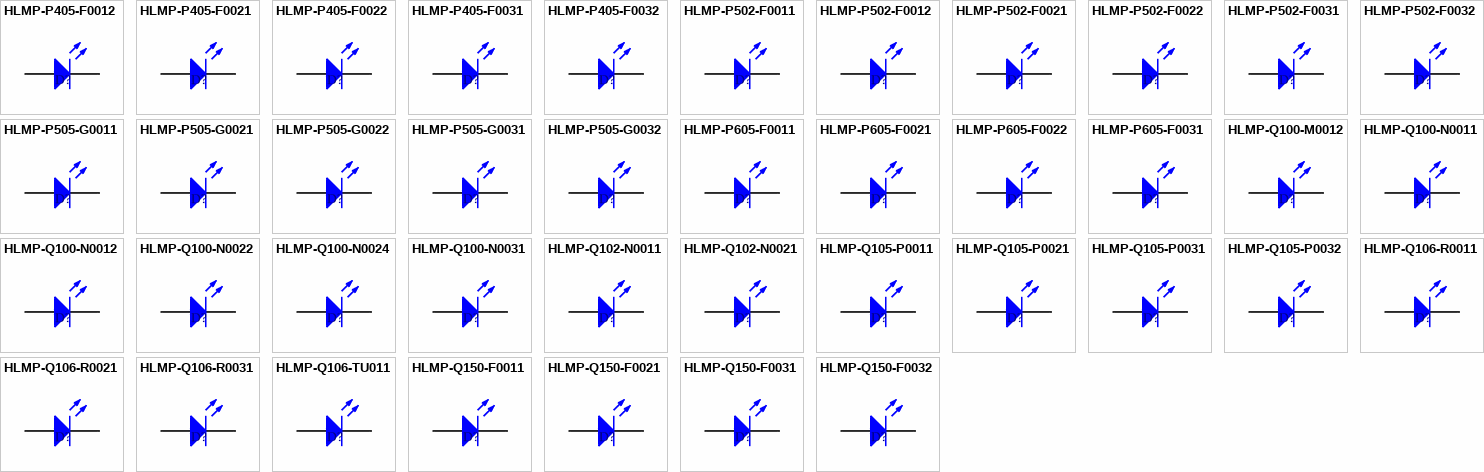
[diagram p3: symbols HLMP-P405-F0012 to HLMP-Q150-F0032]

## HLMP-P405-F0012
designator D?
Subminiature Orange LED Lamp; LuminousIntensity: 1mcd (Minimum).; PCB_Layout: Complies with manufacturer's recommendation.; Published: 11-Dec-2002; LatestRevisionDate: 19-Mar-2004; LatestRevisionNote: Silkscreen size reduced.; DatasheetDocument: 30-Apr-2002; PackageDocument: 19-Apr-2001; PackageReference: 2.2X2.1X2.2; Publisher: Altium Limited; LED_Colour: Orange; ComponentLink1Description: Manufacturer Link; ComponentLink1URL: http://www.agilent.com/; ComponentLink2Description: Datasheet; ComponentLink2URL: http://cp.literature.agilent.com/litweb/pdf/5988-6260EN.pdf
footprint 2.2X2.1X2.2 (SM LED; 2 Gull Wing Leads; Body 2.2 x 2.1 mm, (LxW))
simulation model Agl_HLMPQ400 (Diode)
signal-integrity model LED
pins: 1 A, 2 K

## HLMP-P405-F0021
designator D?
Subminiature Orange LED Lamp; LuminousIntensity: 1mcd (Minimum).; PCB_Layout: Complies with manufacturer's recommendation.; DrillSize: Nominal, Rounded to nearest 0.05mm; Published: 11-Dec-2002; DatasheetDocument: 30-Apr-2002; PackageDocument: 19-Apr-2001; PackageReference: 2.2X2.1X2.2Y; Publisher: Altium Limited; LED_Colour: Orange; ComponentLink1Description: Manufacturer Link; ComponentLink1URL: http://www.agilent.com/; ComponentLink2Description: Datasheet; ComponentLink2URL: http://cp.literature.agilent.com/litweb/pdf/5988-6260EN.pdf
footprint 2.2X2.1X2.2Y (SM LED; 2 Yoke Leads)
simulation model Agl_HLMPQ400 (Diode)
signal-integrity model LED
pins: 1 A, 2 K

## HLMP-P405-F0022
designator D?
Subminiature Orange LED Lamp; LuminousIntensity: 1mcd (Minimum).; PCB_Layout: Complies with manufacturer's recommendation.; DrillSize: Nominal, Rounded to nearest 0.05mm; Published: 11-Dec-2002; DatasheetDocument: 30-Apr-2002; PackageDocument: 19-Apr-2001; PackageReference: 2.2X2.1X2.2Y; Publisher: Altium Limited; LED_Colour: Orange; ComponentLink1Description: Manufacturer Link; ComponentLink1URL: http://www.agilent.com/; ComponentLink2Description: Datasheet; ComponentLink2URL: http://cp.literature.agilent.com/litweb/pdf/5988-6260EN.pdf
footprint 2.2X2.1X2.2Y (SM LED; 2 Yoke Leads)
simulation model Agl_HLMPQ400 (Diode)
signal-integrity model LED
pins: 1 A, 2 K

## HLMP-P405-F0031
designator D?
Subminiature Orange LED Lamp; LuminousIntensity: 1mcd (Minimum).; PCB_Layout: Complies with manufacturer's recommendation.; DrillSize: Nominal, Rounded to nearest 0.05mm; Published: 11-Dec-2002; DatasheetDocument: 30-Apr-2002; PackageDocument: 19-Apr-2001; PackageReference: 2.2X2.1X2.2Z; Publisher: Altium Limited; LED_Colour: Orange; ComponentLink1Description: Manufacturer Link; ComponentLink1URL: http://www.agilent.com/; ComponentLink2Description: Datasheet; ComponentLink2URL: http://cp.literature.agilent.com/litweb/pdf/5988-6260EN.pdf
footprint 2.2X2.1X2.2Z (SM LED; 2 Z-Bend Leads)
simulation model Agl_HLMPQ400 (Diode)
signal-integrity model LED
pins: 1 A, 2 K

## HLMP-P405-F0032
designator D?
Subminiature Orange LED Lamp; LuminousIntensity: 1mcd (Minimum).; PCB_Layout: Complies with manufacturer's recommendation.; DrillSize: Nominal, Rounded to nearest 0.05mm; Published: 11-Dec-2002; DatasheetDocument: 30-Apr-2002; PackageDocument: 19-Apr-2001; PackageReference: 2.2X2.1X2.2Z; Publisher: Altium Limited; LED_Colour: Orange; ComponentLink1Description: Manufacturer Link; ComponentLink1URL: http://www.agilent.com/; ComponentLink2Description: Datasheet; ComponentLink2URL: http://cp.literature.agilent.com/litweb/pdf/5988-6260EN.pdf
footprint 2.2X2.1X2.2Z (SM LED; 2 Z-Bend Leads)
simulation model Agl_HLMPQ400 (Diode)
signal-integrity model LED
pins: 1 A, 2 K

## HLMP-P502-F0011
designator D?
Subminiature Green LED Lamp; LuminousIntensity: 1mcd (Minimum).; PCB_Layout: Complies with manufacturer's recommendation.; Published: 11-Dec-2002; LatestRevisionDate: 19-Mar-2004; LatestRevisionNote: Silkscreen size reduced.; DatasheetDocument: 30-Apr-2002; PackageDocument: 19-Apr-2001; PackageReference: 2.2X2.1X2.2; Publisher: Altium Limited; LED_Colour: Green; ComponentLink1Description: Manufacturer Link; ComponentLink1URL: http://www.agilent.com/; ComponentLink2Description: Datasheet; ComponentLink2URL: http://cp.literature.agilent.com/litweb/pdf/5988-6260EN.pdf
footprint 2.2X2.1X2.2 (SM LED; 2 Gull Wing Leads; Body 2.2 x 2.1 mm, (LxW))
simulation model Agl_HLMP7040 (Diode)
signal-integrity model LED
pins: 1 A, 2 K

## HLMP-P502-F0012
designator D?
Subminiature Green LED Lamp; LuminousIntensity: 1mcd (Minimum).; PCB_Layout: Complies with manufacturer's recommendation.; Published: 11-Dec-2002; LatestRevisionDate: 19-Mar-2004; LatestRevisionNote: Silkscreen size reduced.; DatasheetDocument: 30-Apr-2002; PackageDocument: 19-Apr-2001; PackageReference: 2.2X2.1X2.2; Publisher: Altium Limited; LED_Colour: Green; ComponentLink1Description: Manufacturer Link; ComponentLink1URL: http://www.agilent.com/; ComponentLink2Description: Datasheet; ComponentLink2URL: http://cp.literature.agilent.com/litweb/pdf/5988-6260EN.pdf
footprint 2.2X2.1X2.2 (SM LED; 2 Gull Wing Leads; Body 2.2 x 2.1 mm, (LxW))
simulation model Agl_HLMP7040 (Diode)
signal-integrity model LED
pins: 1 A, 2 K

## HLMP-P502-F0021
designator D?
Subminiature Green LED Lamp; LuminousIntensity: 1mcd (Minimum).; PCB_Layout: Complies with manufacturer's recommendation.; DrillSize: Nominal, Rounded to nearest 0.05mm; Published: 11-Dec-2002; DatasheetDocument: 30-Apr-2002; PackageDocument: 19-Apr-2001; PackageReference: 2.2X2.1X2.2Y; Publisher: Altium Limited; LED_Colour: Green; ComponentLink1Description: Manufacturer Link; ComponentLink1URL: http://www.agilent.com/; ComponentLink2Description: Datasheet; ComponentLink2URL: http://cp.literature.agilent.com/litweb/pdf/5988-6260EN.pdf
footprint 2.2X2.1X2.2Y (SM LED; 2 Yoke Leads)
simulation model Agl_HLMP7040 (Diode)
signal-integrity model LED
pins: 1 A, 2 K

## HLMP-P502-F0022
designator D?
Subminiature Green LED Lamp; LuminousIntensity: 1mcd (Minimum).; PCB_Layout: Complies with manufacturer's recommendation.; DrillSize: Nominal, Rounded to nearest 0.05mm; Published: 11-Dec-2002; DatasheetDocument: 30-Apr-2002; PackageDocument: 19-Apr-2001; PackageReference: 2.2X2.1X2.2Y; Publisher: Altium Limited; LED_Colour: Green; ComponentLink1Description: Manufacturer Link; ComponentLink1URL: http://www.agilent.com/; ComponentLink2Description: Datasheet; ComponentLink2URL: http://cp.literature.agilent.com/litweb/pdf/5988-6260EN.pdf
footprint 2.2X2.1X2.2Y (SM LED; 2 Yoke Leads)
simulation model Agl_HLMP7040 (Diode)
signal-integrity model LED
pins: 1 A, 2 K

## HLMP-P502-F0031
designator D?
Subminiature Green LED Lamp; LuminousIntensity: 1mcd (Minimum).; PCB_Layout: Complies with manufacturer's recommendation.; DrillSize: Nominal, Rounded to nearest 0.05mm; Published: 11-Dec-2002; DatasheetDocument: 30-Apr-2002; PackageDocument: 19-Apr-2001; PackageReference: 2.2X2.1X2.2Z; Publisher: Altium Limited; LED_Colour: Green; ComponentLink1Description: Manufacturer Link; ComponentLink1URL: http://www.agilent.com/; ComponentLink2Description: Datasheet; ComponentLink2URL: http://cp.literature.agilent.com/litweb/pdf/5988-6260EN.pdf
footprint 2.2X2.1X2.2Z (SM LED; 2 Z-Bend Leads)
simulation model Agl_HLMP7040 (Diode)
signal-integrity model LED
pins: 1 A, 2 K

## HLMP-P502-F0032
designator D?
Subminiature Green LED Lamp; LuminousIntensity: 1mcd (Minimum).; PCB_Layout: Complies with manufacturer's recommendation.; DrillSize: Nominal, Rounded to nearest 0.05mm; Published: 11-Dec-2002; DatasheetDocument: 30-Apr-2002; PackageDocument: 19-Apr-2001; PackageReference: 2.2X2.1X2.2Z; Publisher: Altium Limited; LED_Colour: Green; ComponentLink1Description: Manufacturer Link; ComponentLink1URL: http://www.agilent.com/; ComponentLink2Description: Datasheet; ComponentLink2URL: http://cp.literature.agilent.com/litweb/pdf/5988-6260EN.pdf
footprint 2.2X2.1X2.2Z (SM LED; 2 Z-Bend Leads)
simulation model Agl_HLMP7040 (Diode)
signal-integrity model LED
pins: 1 A, 2 K

## HLMP-P505-G0011
designator D?
Subminiature Green LED Lamp; LuminousIntensity: 1.6mcd (Minimum).; PCB_Layout: Complies with manufacturer's recommendation.; Published: 11-Dec-2002; LatestRevisionDate: 19-Mar-2004; LatestRevisionNote: Silkscreen size reduced.; DatasheetDocument: 30-Apr-2002; PackageDocument: 19-Apr-2001; PackageReference: 2.2X2.1X2.2; Publisher: Altium Limited; LED_Colour: Green; ComponentLink1Description: Manufacturer Link; ComponentLink1URL: http://www.agilent.com/; ComponentLink2Description: Datasheet; ComponentLink2URL: http://cp.literature.agilent.com/litweb/pdf/5988-6260EN.pdf
footprint 2.2X2.1X2.2 (SM LED; 2 Gull Wing Leads; Body 2.2 x 2.1 mm, (LxW))
simulation model Agl_HLMP7040 (Diode)
signal-integrity model LED
pins: 1 A, 2 K